# EAGLE library part EXCALIBUR (library julio)
EXCALIBUR PT5071 The PT5071 is a 1.5-ampere rated step-up/ step-down Integrated Switching Regulator (ISR) that provides a tightly regulated 12V output voltage from a 7V to 16V variable input source. This high-performance ISR has applications in systems where the input voltage straddles the desired 12V output. The regulator has an adjustable output voltage and input start-up threshold, and a standby function for power conservation.
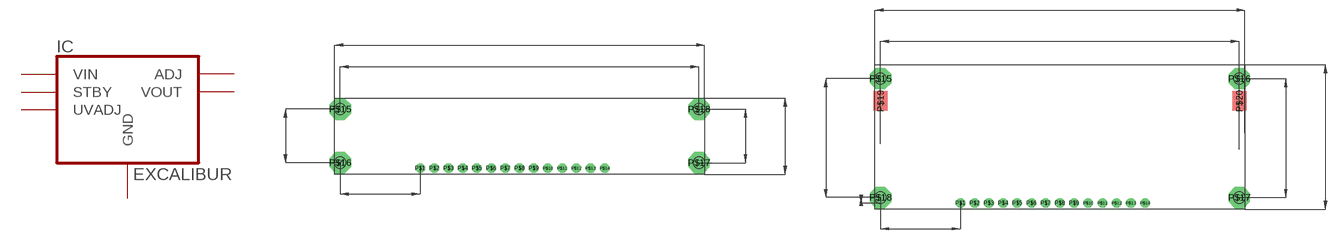
[diagram p1: symbol with the pads of TI_PKG1360; footprints TI_PKG1360, TI_PKG1370]

Designator prefix IC

## EXCALIBURPKG1360  [TI_PKG1360]
P$2  UVADJ
P$3  STBY
P$4  VIN
P$5  VIN
P$6  VIN
P$7  GND
P$8  GND
P$9  GND
P$10  GND
P$11  VOUT
P$12  VOUT
P$13  VOUT
P$14  ADJ

## EXCALIBURPKG1370  [TI_PKG1370]
Pads as for TI_PKG1360

## Footprint TI_PKG1360 (pad centres in mm)
TI Package Style 1360
drill 1.143: P$1 0,0; P$2 2.54,0; P$3 5.08,0; P$4 7.62,0; P$5 10.16,0; P$6 12.7,0; P$7 15.24,0; P$8 17.78,0; P$9 20.32,0; P$10 22.86,0; P$11 25.4,0; P$12 27.94,0; P$13 30.48,0; P$14 33.02,0
drill 2 pad 3.81 octagon: P$15 -14.3,10.6; P$16 -14.3,1; P$17 49.9,1; P$18 49.9,10.6
hole 2 at -14.3,1
hole 2 at -14.3,10.6
hole 2 at 49.9,10.6
hole 2 at 49.9,1

## Footprint TI_PKG1370 (pad centres in mm)
TI Package Style 1370
drill 1.143: P$1 0,0; P$2 2.54,0; P$3 5.08,0; P$4 7.62,0; P$5 10.16,0; P$6 12.7,0; P$7 15.24,0; P$8 17.78,0; P$9 20.32,0; P$10 22.86,0; P$11 25.4,0; P$12 27.94,0; P$13 30.48,0; P$14 33.02,0
drill 2 pad 3.81 octagon: P$15 -14.3,22.3; P$16 49.9,22.3; P$17 49.9,1; P$18 -14.3,1
smd 2.5 x 3.5: P$19 -14.3,18.3; P$20 49.9,18.3
hole 2 at -14.3,1
hole 2 at -14.3,22.3
hole 2 at 49.9,22.3
hole 2 at 49.9,1